# EAGLE library part SST25PF040C (library zkseagle)
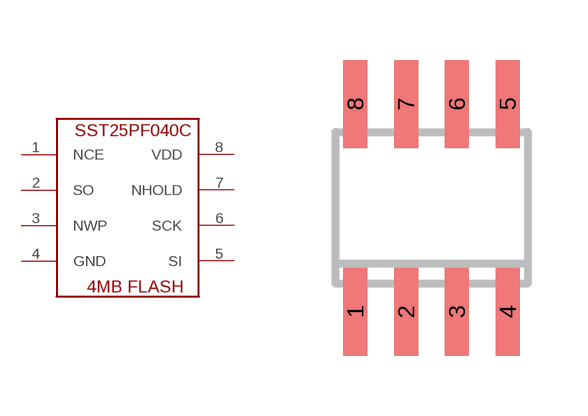
[diagram p6: symbol with the pads of SO08; footprint SO08]

Designator prefix -

## SST25PF040C  [SO08]
1  NCE  in
2  SO  out
3  NWP  in
4  GND  pwr
5  SI  in
6  SCK  in
7  NHOLD  in
8  VDD  pwr

## Footprint SO08 (pad centres in mm)
Small Outline Package 8 NS Package M08A
smd 0.6 x 2.2: 1 -1.905,-2.6; 2 -0.635,-2.6; 3 0.635,-2.6; 4 1.905,-2.6; 5 1.905,2.6; 6 0.635,2.6; 7 -0.635,2.6; 8 -1.905,2.6